# EAGLE library part TPS65185 (library Deegou_IC)
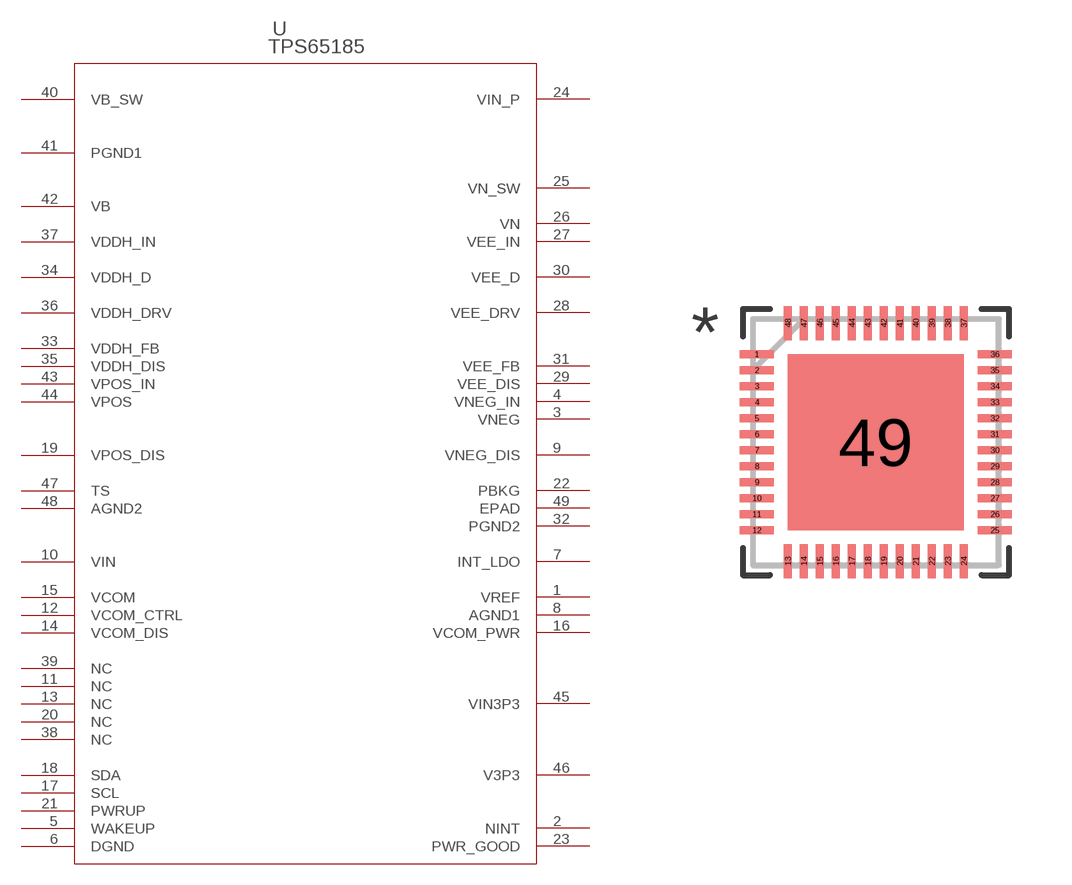
[diagram p107: symbol with the pads of RSL48_4P4X4P4; footprint RSL48_4P4X4P4]

Designator prefix U

## TPS65185 (DATASHEETURL: httpwww.ti.comlitgpnTPS65185; FAMILY_NAME: LCDOLED DISPLAY BIAS SOLUTIONS; GENERIC_PART_NUMBER: TPS65185; INDUSTRY_STD_PKG_TYPE: VQFN; MANUFACTURER: Texas Instruments; MANUFACTURER_PART_NUMBER: tps65185_rsl_48; PACKAGE_DESIGNATOR: RSL; PIN_COUNT: 48; VENDOR: Texas Instruments)  [RSL48_4P4X4P4]
1  VREF  out
2  NINT  out
3  VNEG  out
4  VNEG_IN  in
5  WAKEUP  in
6  DGND  pwr
7  INT_LDO  out
8  AGND1  pwr
9  VNEG_DIS  out
10  VIN  in
11  NC  pas
12  VCOM_CTRL  in
13  NC  pas
14  VCOM_DIS  in
15  VCOM  out
16  VCOM_PWR  in
17  SCL  in
18  SDA
19  VPOS_DIS  in
20  NC  pas
21  PWRUP  in
22  PBKG  pas
23  PWR_GOOD  out
24  VIN_P  in
25  VN_SW  out
26  VN  in
27  VEE_IN  in
28  VEE_DRV  out
29  VEE_DIS  in
30  VEE_D  out
31  VEE_FB  in
32  PGND2  pwr
33  VDDH_FB  in
34  VDDH_D  out
35  VDDH_DIS  in
36  VDDH_DRV  out
37  VDDH_IN  in
38  NC  pas
39  NC  pas
40  VB_SW  out
41  PGND1  pwr
42  VB  in
43  VPOS_IN  in
44  VPOS  out
45  VIN3P3  in
46  V3P3  out
47  TS  in
48  AGND2  pwr
49  EPAD  pas

## Footprint RSL48_4P4X4P4 (pad centres in mm)
smd 0.85 x 0.2: 1 -2.975,2.2; 2 -2.975,1.8; 3 -2.975,1.4; 4 -2.975,1; 5 -2.975,0.6; 6 -2.975,0.2; 7 -2.975,-0.2; 8 -2.975,-0.6; 9 -2.975,-1; 10 -2.975,-1.4; 11 -2.975,-1.8; 12 -2.975,-2.2; 25 2.975,-2.2; 26 2.975,-1.8; 27 2.975,-1.4; 28 2.975,-1; 29 2.975,-0.6; 30 2.975,-0.2; 31 2.975,0.2; 32 2.975,0.6; 33 2.975,1; 34 2.975,1.4; 35 2.975,1.8; 36 2.975,2.2
smd 0.2 x 0.85: 13 -2.2,-2.975; 14 -1.8,-2.975; 15 -1.4,-2.975; 16 -1,-2.975; 17 -0.6,-2.975; 18 -0.2,-2.975; 19 0.2,-2.975; 20 0.6,-2.975; 21 1,-2.975; 22 1.4,-2.975; 23 1.8,-2.975; 24 2.2,-2.975; 37 2.2,2.975; 38 1.8,2.975; 39 1.4,2.975; 40 1,2.975; 41 0.6,2.975; 42 0.2,2.975; 43 -0.2,2.975; 44 -0.6,2.975; 45 -1,2.975; 46 -1.4,2.975; 47 -1.8,2.975; 48 -2.2,2.975
smd 4.4 x 4.4: 49 0,0